# Altium integrated library Encoders.IntLib: 1 symbol
Pins are listed as number, name and electrical type; pins without a type are passive.

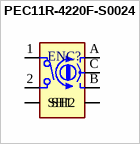
[diagram p0: symbol PEC11R-4220F-S0024]

## PEC11R-4220F-S0024
designator ENC?  (value not drawn)
Incremental Encoder 24 PPR 2 Bit Quadrature 5VDC at 10 mA IP40 PCB Mount 60RPM; Manufacturer Part Number: PEC11R-4220F-S0024; Manufacturer: Bourns Inc.; Value: *; Supplier Part Number: PEC11R-4220F-S0024-ND; Supplier: DigiKey; Package/Case: Tray
footprint ROTENC_PTH_5P_SW_PEC11R
pins: 1, 2, A, B, C COM, SH1, SH2